# Altium integrated library Components - 16.09.25 - 17.49.IntLib: 1 symbol
Pins are listed as number, name and electrical type; pins without a type are passive.

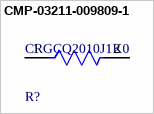
[diagram p0: symbol CMP-03211-009809-1]

## CMP-03211-009809-1
designator R?, comment CRGCQ2010J1K0
CRGCQ2010 1KΩ 0.75W ±100ppm/°C 5% 200V; Manufacturer: TE Connectivity; Tolerance: 0.05; Automotive Grade: Grade 0; Automotive: Yes; Device Class L1: Passive Components; Lead Free: Yes; Package: CRGCQ2010; RoHS: TRUE; Device Class L3: Chip SMD Resistors; Series: CRGCQ; Ambient Temperature Range High: +70°C; Temperature Coefficient: ±100ppm/°C; Power Rating: 0.75W; Resistance: 1KΩ; Manufacturer Part Number: CRGCQ2010J1K0; Ipc Land Pattern Name: RESC500250X55; Temperature Range High: +155°C; ComponentLink2Description: Datasheet; Temperature: -55°C to +155°C; Temperature Range Low: -55°C; Height: 0.65mm; Device Class L2: Resistors; Composition: Thick Film; Octopart: https://octopart.com/crgcq2010j1k0-te+connectivity-91018520; Category: Res; Value: 1KΩ; Voltage Rating: 200V; ComponentLink2URL: https://www.te.com/commerce/DocumentDelivery/DDEController?Action=showdoc&DocId=Data+Sheet%7F1773204-3%7F1%7Fpdf%7FEnglish%7FENG_DS_1773204-3_1.pdf%7F4-2176347-695
footprint FP-CRGCQ2010-IPC_A
footprint FP-CRGCQ2010-IPC_C
footprint FP-CRGCQ2010-IPC_B
pins: 1, 2